# Altium schematic symbol library CDCLVC1102.SchLib: 1 symbol
Pins are listed as number, name and electrical type; pins without a type are passive.

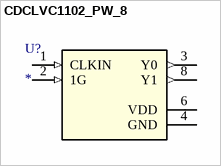
[diagram p0: symbol CDCLVC1102_PW_8]

## CDCLVC1102_PW_8
designator U?
CDCLVC11xx 3.3-V and 2.5-V LVCMOS High-Performance Clock Buffer Family; Copyright: Copyright (C) 2018 Accelerated Designs. All rights reserved; RefDes: RefDes; Type: DEV; Value: Value
footprint PW8
pins: 1 CLKIN (in), 2 1G (in), 3 Y0 (out), 4 GND (power), 6 VDD (power), 8 Y1 (out)